# EAGLE library part LMH7220MK (library LMH7220)
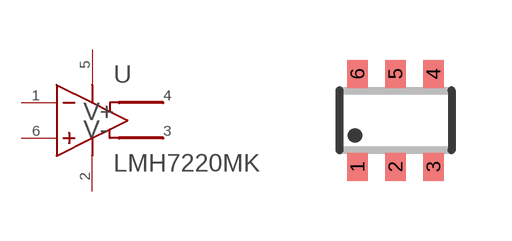
[diagram p0: symbol with the pads of TSOP-6.PAC; footprint TSOP-6.PAC]

Designator prefix -

## LMH7220MK  [TSOP-6.PAC]
1  -IN  in
2  V-  pwr
3  -OUT  out
4  +OUT  in
5  V+  pwr
6  +IN  out

## Footprint TSOP-6.PAC (pad centres in mm)
TSOP-6 Source: http://www.vishay.com/docs/72105/72105.pdf
smd 0.508 x 0.7: 1 -0.95,-1.163; 2 0,-1.163; 3 0.95,-1.163; 4 0.95,1.163; 5 0,1.163; 6 -0.95,1.163